# EAGLE library part 541323462 (library molex fpc 34p 0.5mm )
Check availability <https://pricing.snapeda.com/parts/541323462/Molex/view-part?ref=eda>
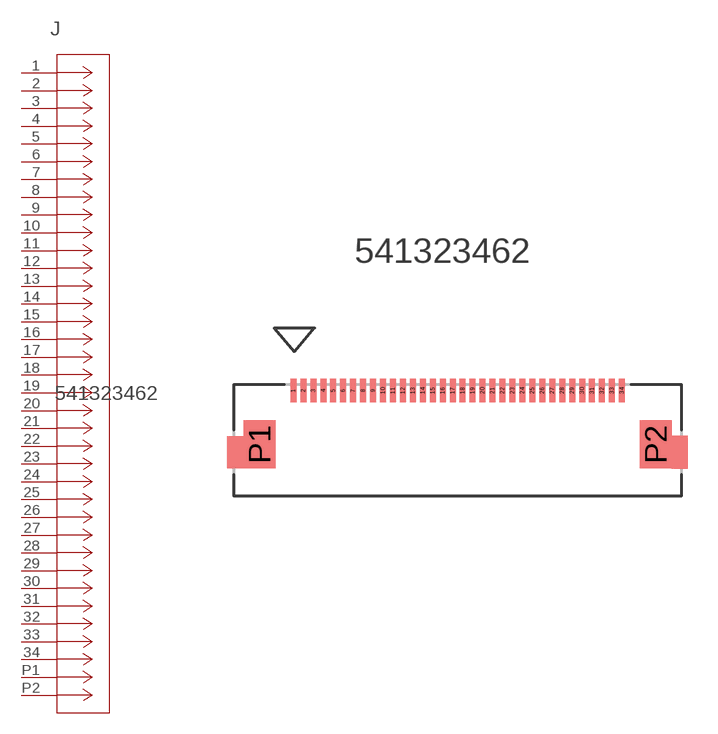
[diagram p0: symbol with the pads of CON_541323462_MOL; footprint CON_541323462_MOL]

Designator prefix J

## 541323462 (Availability: In Stock; Check_prices: https://www.snapeda.com/parts/541323462/Molex/view-part/?ref=eda; Description: 34 Position FFC, FPC Connector Contacts, Bottom 0.020 (0.50mm) Surface Mount, Right Angle; MF: Molex; MP: 541323462; Package: None; Price: None; SnapEDA_Link: https://www.snapeda.com/parts/541323462/Molex/view-part/?ref=snap)  [CON_541323462_MOL]
1  1  pas
2  2  pas
3  3  pas
4  4  pas
5  5  pas
6  6  pas
7  7  pas
8  8  pas
9  9  pas
10  10  pas
11  11  pas
12  12  pas
13  13  pas
14  14  pas
15  15  pas
16  16  pas
17  17  pas
18  18  pas
19  19  pas
20  20  pas
21  21  pas
22  22  pas
23  23  pas
24  24  pas
25  25  pas
26  26  pas
27  27  pas
28  28  pas
29  29  pas
30  30  pas
31  31  pas
32  32  pas
33  33  pas
34  34  pas
P1  P1  pas
P2  P2  pas

## Footprint CON_541323462_MOL (pad centres in mm)
smd 0.3 x 1.2: 1 -8.25,2.498; 2 -7.75,2.498; 3 -7.25,2.498; 4 -6.75,2.498; 5 -6.25,2.498; 6 -5.75,2.498; 7 -5.25,2.498; 8 -4.75,2.498; 9 -4.25,2.498; 10 -3.75,2.498; 11 -3.25,2.498; 12 -2.75,2.498; 13 -2.25,2.498; 14 -1.75,2.498; 15 -1.25,2.498; 16 -0.75,2.498; 17 -0.25,2.498; 18 0.25,2.498; 19 0.75,2.498; 20 1.25,2.498; 21 1.75,2.498; 22 2.25,2.498; 23 2.75,2.498; 24 3.25,2.498; 25 3.75,2.498; 26 4.25,2.498; 27 4.75,2.498; 28 5.25,2.498; 29 5.75,2.498; 30 6.25,2.498; 31 6.75,2.498; 32 7.25,2.498; 33 7.75,2.498; 34 8.25,2.498
smd 1.6 x 2.4: P1 -9.95,-0.202; P2 9.95,-0.202